# EAGLE library part ER-OLED0.49_ER-OLED0.49 (library talkie)
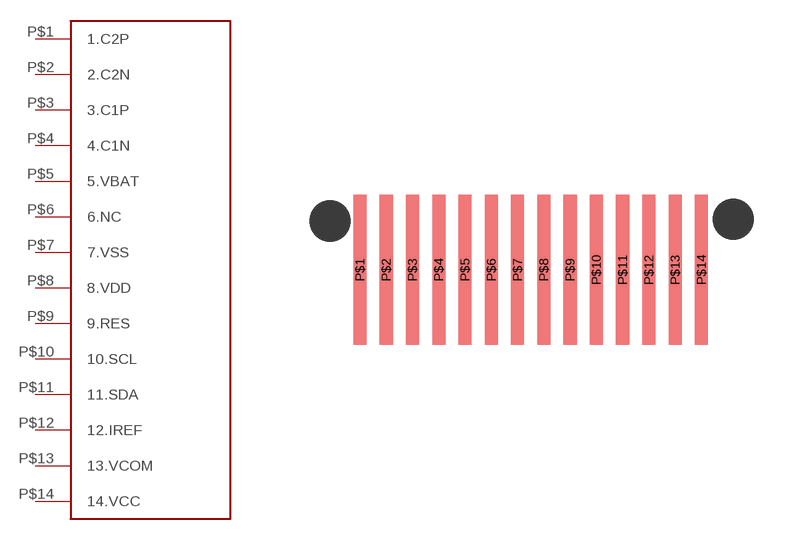
[diagram p0: symbol with the pads of ER-OLED0.49_ER-OLED0.49; footprint ER-OLED0.49_ER-OLED0.49]

Designator prefix -

## ER-OLED0.49_ER-OLED0.49  [ER-OLED0.49_ER-OLED0.49]
P$1  1.C2P
P$2  2.C2N
P$3  3.C1P
P$4  4.C1N
P$5  5.VBAT
P$6  6.NC
P$7  7.VSS
P$8  8.VDD
P$9  9.RES
P$10  10.SCL
P$11  11.SDA
P$12  12.IREF
P$13  13.VCOM
P$14  14.VCC

## Footprint ER-OLED0.49_ER-OLED0.49 (pad centres in mm)
smd 0.35 x 4: P$1 1.45,2; P$2 2.15,2; P$3 2.85,2; P$4 3.55,2; P$5 4.25,2; P$6 4.95,2; P$7 5.65,2; P$8 6.35,2; P$9 7.05,2; P$10 7.75,2; P$11 8.45,2; P$12 9.15,2; P$13 9.85,2; P$14 10.55,2